# EAGLE library part MINI-PCIE-BASIC (library jt-con-molex)
Basic MINI PCI-E card
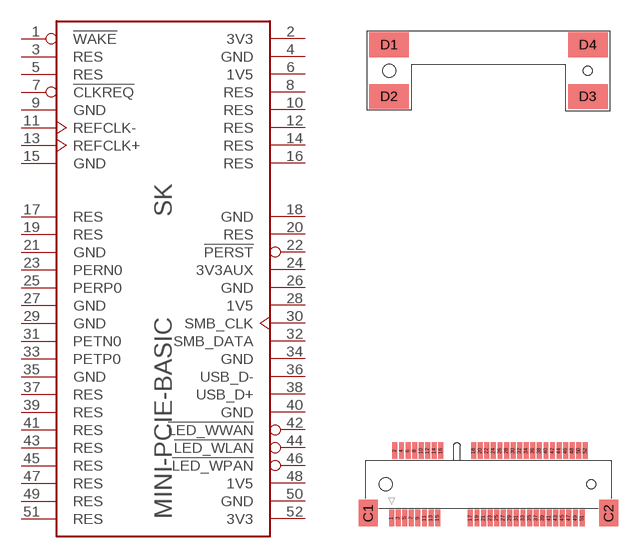
[diagram p1: symbol with the pads of 67910-MINI-PCIE; footprint 67910-MINI-PCIE]

Designator prefix SK

## MINI-PCIE-BASIC  [67910-MINI-PCIE]
1  !WAKE
2  3V3  pwr
3  RES
4  GND  pwr
5  RES
6  1V5  pwr
7  !CLKREQ
8  RES
9  GND  pwr
10  RES
11  REFCLK-
12  RES
13  REFCLK+
14  RES
15  GND  pwr
16  RES
17  RES
18  GND  pwr
19  RES
20  RES  pwr
21  GND  pwr
22  !PERST
23  PERN0
24  3V3AUX  pwr
25  PERP0
26  GND
27  GND  pwr
28  1V5  pwr
29  GND  pwr
30  SMB_CLK
31  PETN0
32  SMB_DATA
33  PETP0
34  GND  pwr
35  GND  pwr
36  USB_D-
37  RES
38  USB_D+
39  RES
40  GND  pwr
41  RES
42  !LED_WWAN
43  RES
44  !LED_WLAN
45  RES
46  !LED_WPAN
47  RES
48  1V5  pwr
49  RES
50  GND  pwr
51  RES
52  3V3  pwr

## Footprint 67910-MINI-PCIE (pad centres in mm)
67910 Mini PCI-E
smd 0.6 x 2: 1 0,0; 2 0.4,8.2; 3 0.8,0; 4 1.2,8.2; 5 1.6,0; 6 2,8.2; 7 2.4,0; 8 2.8,8.2; 9 3.2,0; 10 3.6,8.2; 11 4,0; 12 4.4,8.2; 13 4.8,0; 14 5.2,8.2; 15 5.6,0; 16 6,8.2; 17 9.6,0; 18 10,8.2; 19 10.4,0; 20 10.8,8.2; 21 11.2,0; 22 11.6,8.2; 23 12,0; 24 12.4,8.2; 25 12.8,0; 26 13.2,8.2; 27 13.6,0; 28 14,8.2; 29 14.4,0; 30 14.8,8.2; 31 15.2,0; 32 15.6,8.2; 33 16,0; 34 16.4,8.2; 35 16.8,0; 36 17.2,8.2; 37 17.6,0; 38 18,8.2; 39 18.4,0; 40 18.8,8.2; 41 19.2,0; 42 19.6,8.2; 43 20,0; 44 20.4,8.2; 45 20.8,0; 46 21.2,8.2; 47 21.6,0; 48 22,8.2; 49 22.4,0; 50 22.8,8.2; 51 23.2,0; 52 23.6,8.2
smd 2.3 x 3.2: C1 -2.85,0.6; C2 26.45,0.6
smd 4.8 x 3: D1 -0.3,57.65; D2 -0.3,51.35; D3 23.9,51.35; D4 23.9,57.65
hole 1.6 at -0.7,4.1
hole 1.1 at 24.3,4.1
hole 1.1 at 23.9,54.5
hole 1.6 at -0.3,54.5